# Altium footprint library TLP5774.PcbLib: 1 footprints
Each footprint in its own frame and in the unit in brackets; x right, y up, seen from the top. Pads: shape width x height; smd on the part's side, far side on the other; paste and mask are expansions set on the pad; w line width, h text height; cw(c..) or ccw(c..) is an arc to the next point about the centre after c.
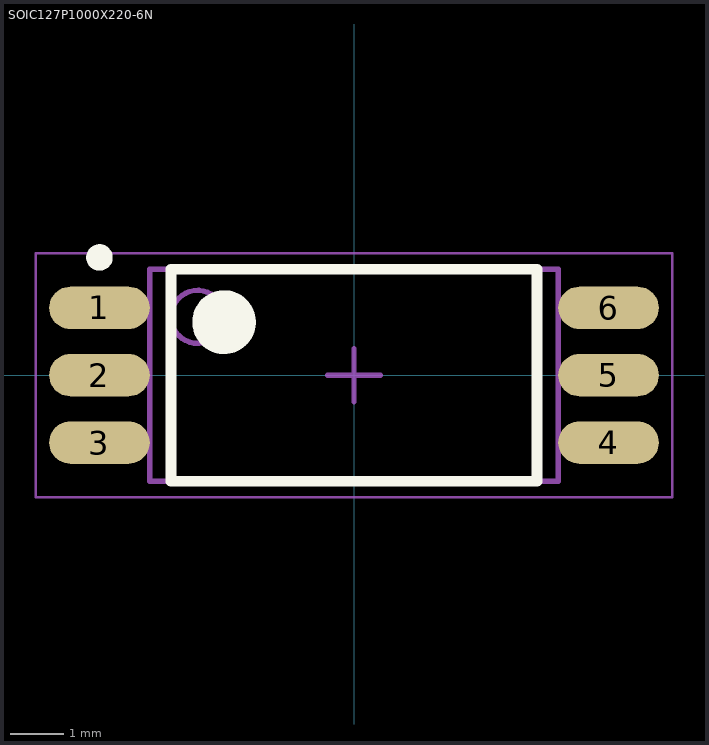
[diagram p0: the footprint, top view; thin cyan lines are the x and y axes]

## SOIC127P1000X220-6N [mm] "SOIC, 6-Leads, Body 3.84x7.50mm, Pitch 1.27mm, IPC Medium Density"
height 2.2
pads (6):
  oval 1.9x0.8 smd: 1(-4.8,1.27) 2(-4.8,0) 3(-4.8,-1.27) 4(4.8,-1.27) 5(4.8,0) 6(4.8,1.27)
Top Overlay:
  circle w0.6: c-2.45,1 r0.3
  circle w0.25: c-4.8,2.22 r0.125
  lines w0.2: -3.45,-2 3.45,-2 3.45,2 -3.45,2 -3.45,-2
Mechanical 13:
  circle w0.1: c-2.95,1.1 r0.5
  lines w0.1: -3.85,-2 3.85,-2 3.85,2 -3.85,2 -3.85,-2
Mechanical 15:
  lines w0.05: -6,-2.3 6,-2.3 6,2.3 -6,2.3 -6,-2.3
  lines w0.1: -0.5,0 0.5,0 ; 0,-0.5 0,0.5
3D body "SOIC127P1000X220-6N.step": height 2.2, standoff 0, extent -5,-2 5,2